# Altium footprint library TDFN-8.PcbLib: 1 footprints
Each footprint in its own frame and in the unit in brackets; x right, y up, seen from the top. Pads: shape width x height; smd on the part's side, far side on the other; paste and mask are expansions set on the pad; w line width, h text height; cw(c..) or ccw(c..) is an arc to the next point about the centre after c.
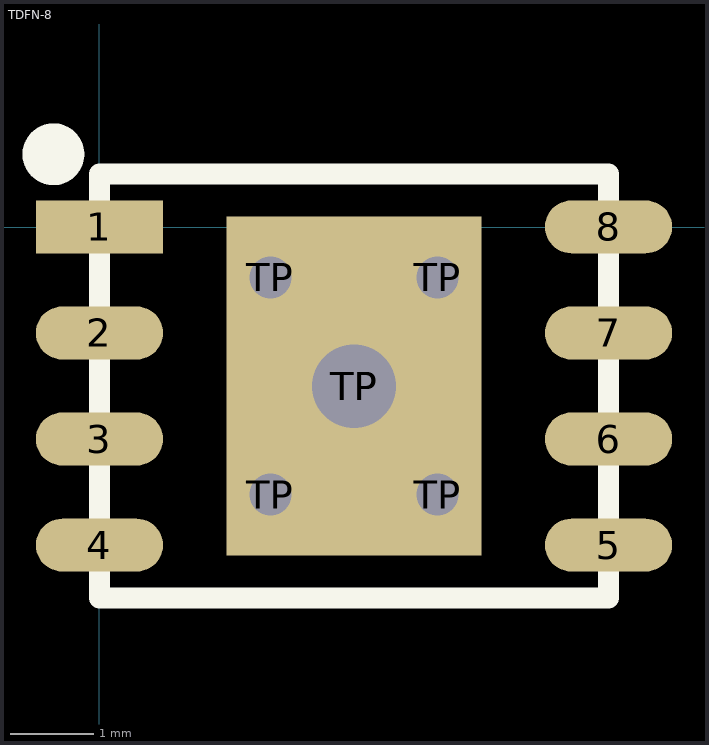
[diagram p0: the footprint, top view; thin cyan lines are the x and y axes]

## TDFN-8 [mm] "TDFN 8-pin 6x5mm"
pads (14):
  rect 1.524x0.635 smd: 1(0.002,0.005)
  oval 1.524x0.635 smd: 2(0.002,-1.265) 3(0.002,-2.535) 4(0.002,-3.805) 5(6.098,-3.805) 6(6.098,-2.535) 7(6.098,-1.265) 8(6.098,0.005)
  round 0.8 hole 0.5: TP(2.05,-3.2) TP(2.05,-0.6) TP(4.05,-3.2) TP(4.05,-0.6)
  rect 3.048x4.064 smd: TP(3.05,-1.9)
  round 1.5 hole 1: TP(3.05,-1.9)
Top Overlay:
  circle w0.381: c-0.55,0.875 r0.18
  lines w0.254: 0.002,-4.44 0.002,0.64 6.098,0.64 6.098,-4.44 0.002,-4.44
3D body "tdfn8-5x5.STEP": height 0.76, standoff 0, extent 0.54,-4.4 5.56,0.6